# Altium schematic symbol library LM2576_Buck_Converter_Sch_library.SchLib: 7 symbols
Pins are listed as number, name and electrical type; pins without a type are passive.

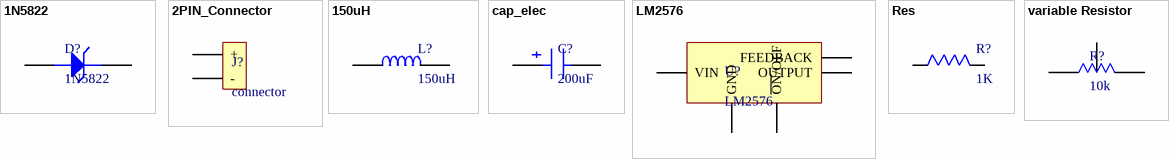
[diagram p0: symbols 1N5822 to variable Resistor]

## 1N5822
designator D?
footprint 1N5822 - duplicate1
pins: 1 Anode, 2 Cathode

## 2PIN_Connector
designator J?, comment connector
footprint 2PIN_Connector
pins: 1 +, 2 -

## 150uH
designator L?
footprint 150uH Indicator - duplicate
pins: 1, 2

## cap_elec
designator C?, comment 200uF
footprint C_elec - duplicate
pins: 1, 2

## LM2576
designator U?
footprint LM2576 - duplicate
pins: 1 VIN, 2 OUTPUT, 3 GND, 4 FEEDBACK, 5 ~{ON}/OFF

## Res
designator R?, comment 1K
footprint R(0805)
pins: 1, 2

## variable Resistor
designator R?, comment 10k
footprint variabel resistor - duplicate
pins: 1, 2, 3